# EAGLE library part TEXAS_INSTRUMENTS-PWM_CONTROLLER-UCC2897APW (library Module_Regulators)
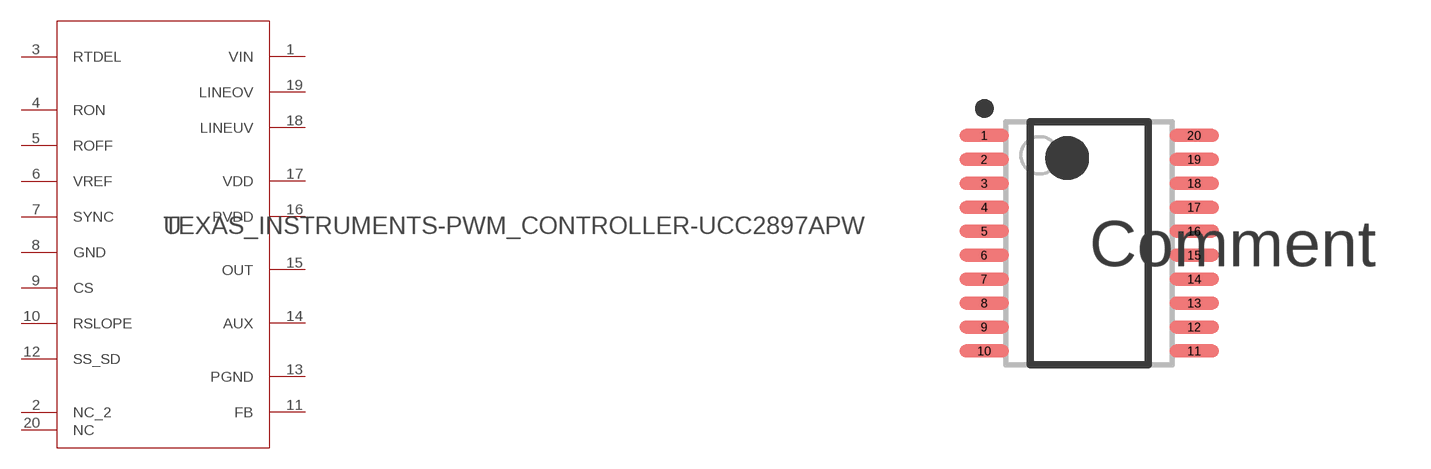
[diagram p21: symbol with the pads of TEXAS_INSTRUMENTS-PWM_CONTROLLER-UCC2897APW; footprint TEXAS_INSTRUMENTS-PWM_CONTROLLER-UCC2897APW]

Designator prefix U

## TEXAS_INSTRUMENTS-PWM_CONTROLLER-UCC2897APW (ADDRESS1: Not shown in title block; ADDRESS2: Not shown in title block; ADDRESS3: Not shown in title block; ADDRESS4: Not shown in title block; ALTERNATEMANUFACTURER: None; APPROVEDBY: Not shown in title block; AUTHOR: Not shown in title block; CHECKEDBY: Not shown in title block; COMPANYNAME: Not shown in title block; COMPONENTLINK1DESCRIPTION: Datasheet Link; COMPONENTLINK1URL: httpwww.ti.comlitdssymlinkucc2897a.pdf; COMPTYPE: IC; CURRENTDATE: Not shown in title block; CURRENTTIME: Not shown in title block; DATE: Not shown in title block; DESIGNATOR: U?; DOCUMENTFULLPATHANDNAME: Not shown in title block; DOCUMENTNAME: Not shown in title block; DOCUMENTNUMBER: 1; ENGINEER: Not shown in title block; IMAGEPATH: Not shown in title block; LATESTREVISIONDATE: 20140430; MANUFACTURER: Texas Instruments; MODIFIEDDATE: Not shown in title block; MOUNTTYPE: SMT; ORGANIZATION: Not shown in title block; PACKAGEREFERENCE: PW0020A; PARTNUMBER: UCC2897APW; PIN_COUNT: 20; PROJECTNAME: *; PUBLISHER: Texas Instruments; REVISION: Use project parameter SCH_Rev; ROHS: Y; RULE: *; SHEETNUMBER: 1; SHEETTOTAL: 1; SYMBOLCREATOR: a0411947; SYMBOLVERSION: 20140428; TIME: Not shown in title block; UM: EA)  [TEXAS_INSTRUMENTS-PWM_CONTROLLER-UCC2897APW]
1  VIN  pwr
2  NC_2  pas
3  RTDEL  in
4  RON  in
5  ROFF  in
6  VREF  out
7  SYNC  in
8  GND  pwr
9  CS  in
10  RSLOPE  in
11  FB  in
12  SS_SD  in
13  PGND  pwr
14  AUX  out
15  OUT  out
16  PVDD  pwr
17  VDD  pwr
18  LINEUV  in
19  LINEOV  in
20  NC  pas

## Footprint TEXAS_INSTRUMENTS-PWM_CONTROLLER-UCC2897APW (pad centres in mm)
smd 1.35 x 0.35: 1 -2.85,2.925; 2 -2.85,2.275; 3 -2.85,1.625; 4 -2.85,0.975; 5 -2.85,0.325; 6 -2.85,-0.325; 7 -2.85,-0.975; 8 -2.85,-1.625; 9 -2.85,-2.275; 10 -2.85,-2.925; 11 2.85,-2.925; 12 2.85,-2.275; 13 2.85,-1.625; 14 2.85,-0.975; 15 2.85,-0.325; 16 2.85,0.325; 17 2.85,0.975; 18 2.85,1.625; 19 2.85,2.275; 20 2.85,2.925